# Altium footprint library MOLEX 78646.PcbLib: 1 footprints
Each footprint in its own frame and in the unit in brackets; x right, y up, seen from the top. Pads: shape width x height; smd on the part's side, far side on the other; paste and mask are expansions set on the pad; w line width, h text height; cw(c..) or ccw(c..) is an arc to the next point about the centre after c.
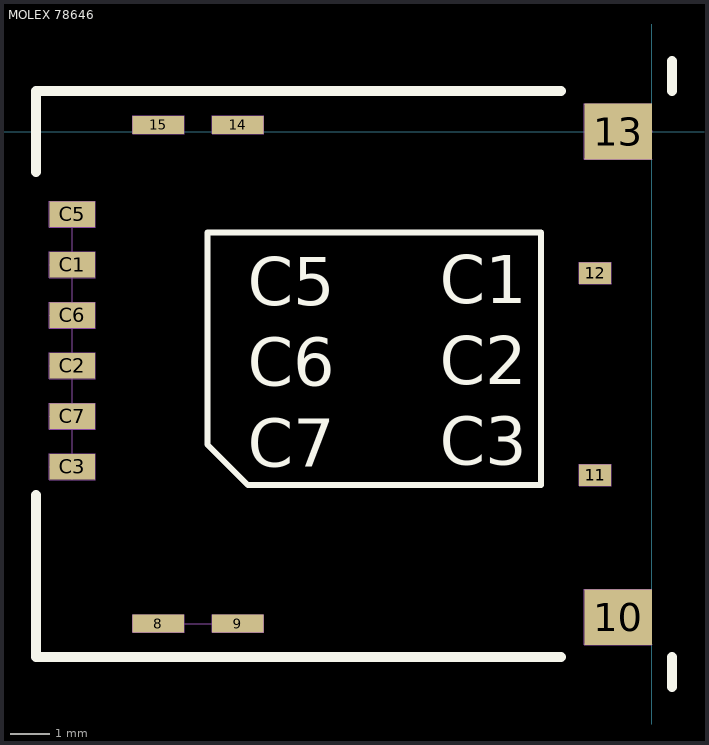
[diagram p0: the footprint, top view; thin cyan lines are the x and y axes]

## MOLEX 78646 [mm]
height 1
pads (14):
  rect 1.3x0.45 smd: 8(-12.416,-12.372) 9(-10.413,-12.371) 14(-10.416,0.168) 15(-12.416,0.168)
  rect 1.7x1.4 smd: 10(-0.85,-12.21) 13(-0.85,0)
  rect 0.8x0.54 smd: 11(-1.433,-8.642) 12(-1.433,-3.562)
  rect 1.15x0.65 smd: C1(-14.577,-3.35) C2(-14.577,-5.89) C3(-14.577,-8.43) C5(-14.58,-2.078) C6(-14.577,-4.62) C7(-14.577,-7.16)
Top Overlay:
  lines w0.15: -11.176,-7.874 -11.176,-2.54 -2.794,-2.54 -2.794,-8.89 -10.16,-8.89 -11.176,-7.874
  lines w0.25: 0.508,-13.97 0.508,-13.208 ; 0.508,1.016 0.508,1.778
  lines w0.254: -15.494,-9.144 -15.494,-13.208 -2.286,-13.208 ; -15.494,-1.016 -15.494,1.016 -2.286,1.016
  text "C5" at -10.16,-4.361 h1.2
  text "C6" at -10.16,-6.393 h1.2
  text "C7" at -10.16,-8.425 h1.2
  text "C3" at -5.334,-8.382 h1.2
  text "C2" at -5.334,-6.35 h1.2
  text "C1" at -5.334,-4.318 h1.2
Mechanical 1:
  circle w0.006: c-14.58,-2.075 r0.003
  circle w0.006: c-1.43,-3.56 r0.003
  circle w0.006: c-10.41,-12.37 r0.003
  circle w0.006: c0,0 r0.003
  lines w0.013: -15.155,-8.425 -14.005,-8.425 ; -15.155,-7.155 -14.005,-7.155 ; -15.155,-5.885 -14.005,-5.885 ; -15.155,-4.615 -14.005,-4.615 ; -15.155,-3.345 -14.005,-3.345 ; -14.58,-8.75 -14.58,-1.75 ; -13.06,-12.37 -9.76,-12.37 ; -12.41,-12.595 -12.41,-12.145 ; -1.83,-8.64 -1.03,-8.64 ; -1.43,-8.91 -1.43,-8.37 ; -15.155,-2.4 -14.005,-1.75 ; -15.155,-2.4 -14.005,-2.4 ; -15.155,-2.4 -15.155,-1.75 ; -15.155,-1.75 -14.005,-2.4 ; -15.155,-1.75 -14.005,-1.75 ; -14.005,-2.4 -14.005,-1.75 ; -13.06,-0.055 -11.76,0.395 ; -13.06,-0.055 -13.06,0.395 ; -13.06,-0.055 -11.76,-0.055 ; -13.06,0.395 -11.76,-0.055 ; -13.06,0.395 -11.76,0.395 ; -11.76,-0.055 -11.76,0.395 ; -11.06,-12.595 -9.76,-12.145 ; -11.06,-12.595 -9.76,-12.595 ; -11.06,-12.595 -11.06,-12.145 ; -11.06,-12.145 -9.76,-12.595 ; -11.06,-12.145 -9.76,-12.145 ; -11.06,-0.055 -9.76,0.395 ; -11.06,-0.055 -9.76,-0.055 ; -11.06,-0.055 -11.06,0.395 ; -11.06,0.395 -9.76,-0.055 ; -11.06,0.395 -9.76,0.395 ; -9.76,-12.595 -9.76,-12.145 ; -9.76,-0.055 -9.76,0.395 ; -1.83,-3.83 -1.03,-3.29 ; -1.83,-3.83 -1.03,-3.83 ; -1.83,-3.83 -1.83,-3.29 ; -1.83,-3.29 -1.03,-3.83 ; -1.83,-3.29 -1.03,-3.29 ; -1.7,-12.91 0,-11.51 ; -1.7,-12.91 0,-12.91 ; -1.7,-12.91 -1.7,-11.51 ; -1.7,-11.51 0,-12.91 ; -1.7,-11.51 0,-11.51 ; -1.7,-0.7 0,0.7 ; -1.7,-0.7 0,-0.7 ; -1.7,-0.7 -1.7,0.7 ; -1.7,0.7 0,-0.7 ; -1.7,0.7 0,0.7 ; -1.03,-3.83 -1.03,-3.29 ; 0,-12.91 0,-11.51 ; 0,-0.7 0,0.7 ; -15.155,-8.75 -14.005,-8.75 -14.005,-8.1 -15.155,-8.1 -15.155,-8.75 ; -15.155,-7.48 -14.005,-7.48 -14.005,-6.83 -15.155,-6.83 -15.155,-7.48 ; -15.155,-6.21 -14.005,-6.21 -14.005,-5.56 -15.155,-5.56 -15.155,-6.21 ; -15.155,-4.94 -14.005,-4.94 -14.005,-4.29 -15.155,-4.29 -15.155,-4.94 ; -15.155,-3.67 -14.005,-3.67 -14.005,-3.02 -15.155,-3.02 -15.155,-3.67 ; -13.06,-12.595 -11.76,-12.595 -11.76,-12.145 -13.06,-12.145 -13.06,-12.595 ; -1.83,-8.91 -1.03,-8.91 -1.03,-8.37 -1.83,-8.37 -1.83,-8.91
3D body "MOLEX 78646-3001 positioned1.x_t": height 1.45, standoff 0, extent -15.008,-12.632 0.442,0.418